# EAGLE library part MCP1725-3302E/SN (library crawler_esp12)
Low Quiescent Current LDO Regulator
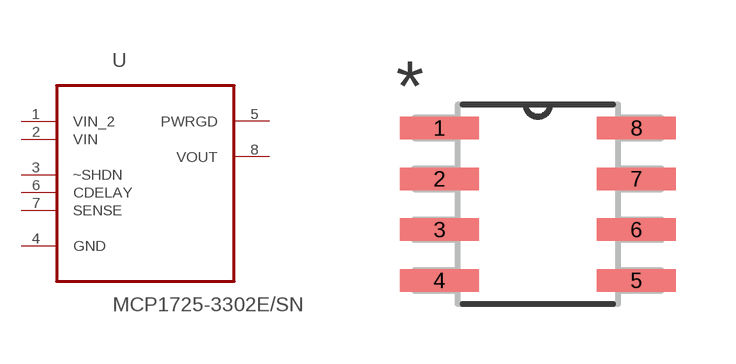
[diagram p4: symbol with the pads of SOIC127P600X175-8N; footprint SOIC127P600X175-8N]

Designator prefix -

## MCP1725-3302E/SN (MPN: MCP1725-3302E/SN; OC_FARNELL: 1439383; OC_NEWARK: 58M8879; PACKAGE: SOIC-8; SUPPLIER: Microchip)  [SOIC127P600X175-8N]
1  VIN_2  pwr
2  VIN  pwr
3  ~SHDN  in
4  GND  pas
5  PWRGD  out
6  CDELAY  in
7  SENSE  in
8  VOUT  out

## Footprint SOIC127P600X175-8N (pad centres in mm)
smd 1.981 x 0.559: 1 -2.464,1.905; 2 -2.464,0.635; 3 -2.464,-0.635; 4 -2.464,-1.905; 5 2.464,-1.905; 6 2.464,-0.635; 7 2.464,0.635; 8 2.464,1.905